# Altium footprint library NEW.PcbLib: 69 footprints (part 2 of 5)
Each footprint in its own frame and in the unit in brackets; x right, y up, seen from the top. Pads: shape width x height; smd on the part's side, far side on the other; paste and mask are expansions set on the pad; w line width, h text height; cw(c..) or ccw(c..) is an arc to the next point about the centre after c.
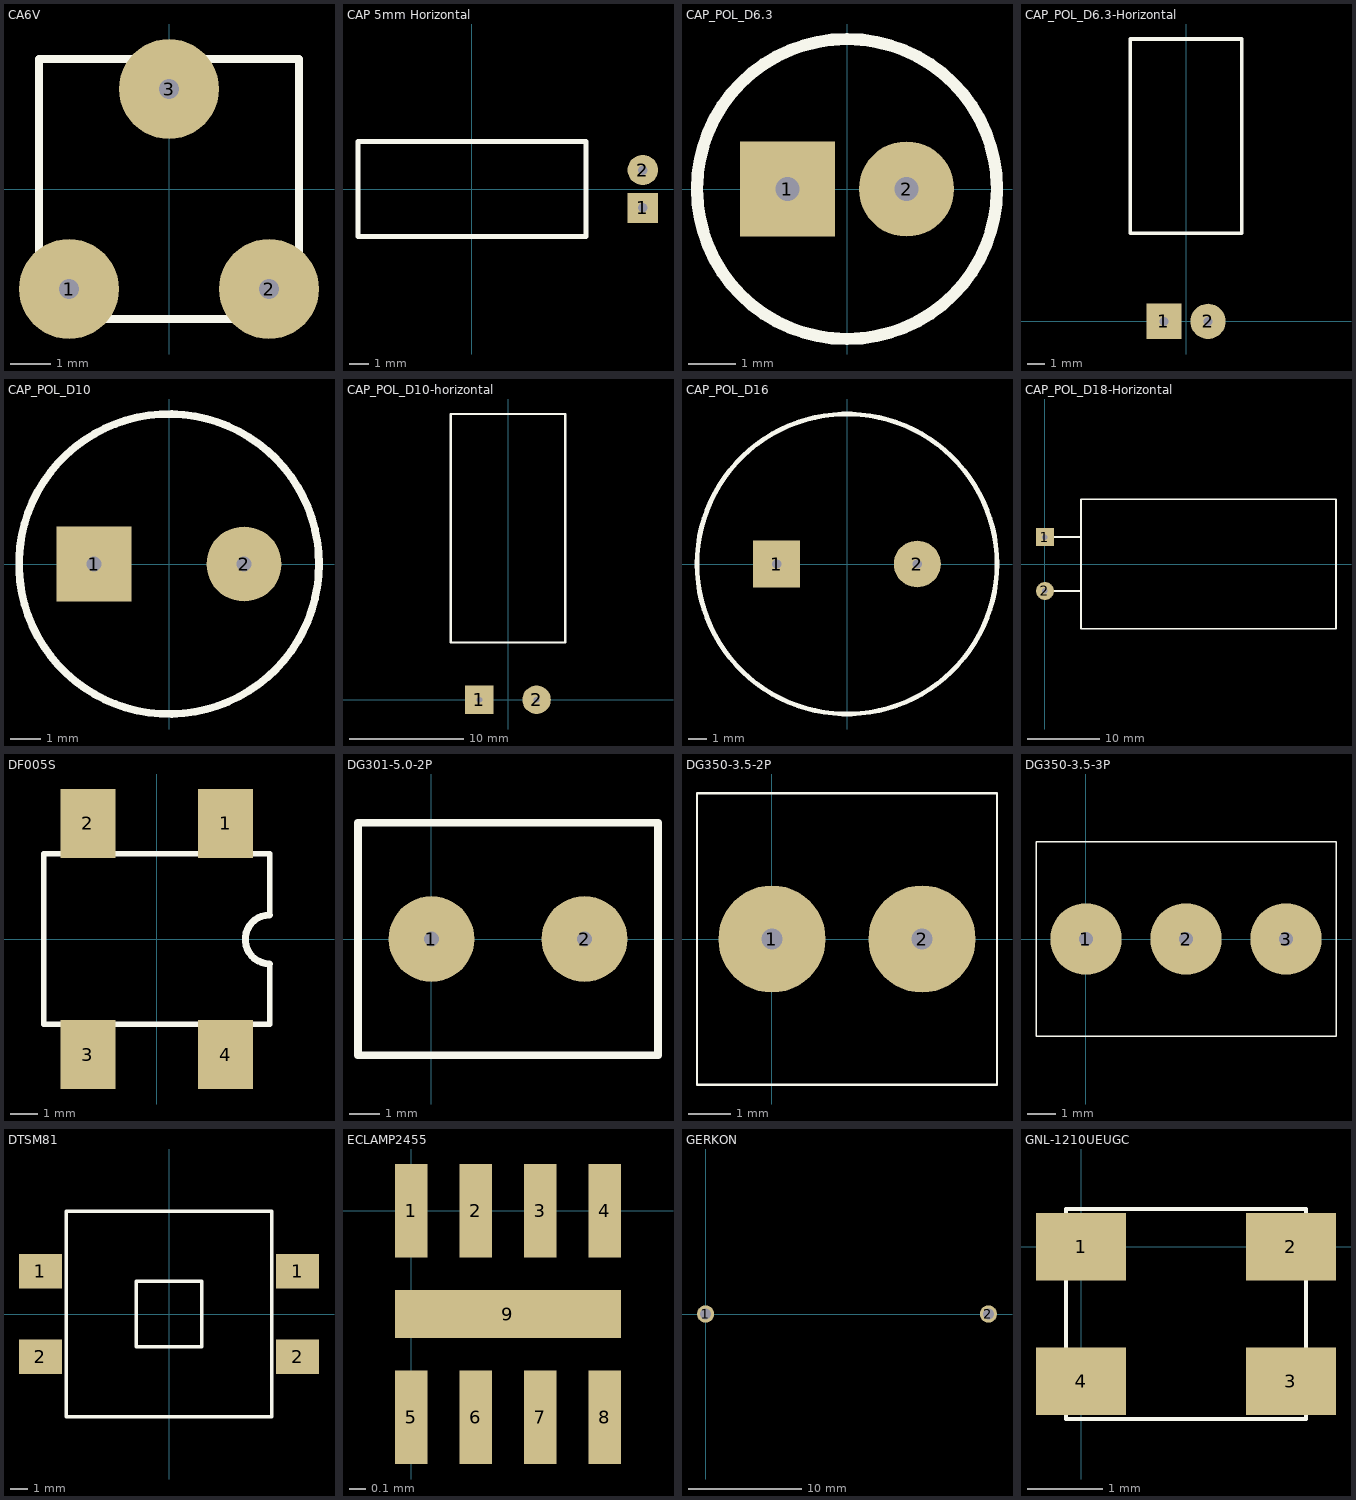
[diagram p1: the footprints below, top view; thin cyan lines are the x and y axes]

## CA6V [mm]
height 3.6
pads (3):
  round 2.5 hole 0.5 unplated: 1(-2.5,-2.5) 2(2.5,-2.5) 3(0,2.5)
Top Overlay:
  lines w0.2: -3.25,-3.25 3.25,-3.25 3.25,3.25 -3.25,3.25 -3.25,-3.25

## CAP 5mm Horizontal [mm]
height 5
pads (2):
  rect 1.6x1.6 hole 0.5: 1(9,-1)
  round 1.6 hole 0.5: 2(9,1)
Top Overlay:
  lines w0.254: -6,-2.5 -6,2.5 6,2.5 6,-2.5 -6,-2.5

## CAP_POL_D6.3 [mm]
height 11
pads (2):
  rect 2x2 hole 0.5 unplated: 1(-1.25,0)
  round 2 hole 0.5 unplated: 2(1.25,0)
Top Overlay:
  circle w0.254: c0,0 r3.15
3D body: height 11, standoff 0, extent -3.125,-3.144 3.15,3.144

## CAP_POL_D6.3-Horizontal [mm]
height 7
pads (2):
  rect 2x2 hole 0.5 unplated: 1(-1.25,0)
  round 2 hole 0.5 unplated: 2(1.25,0)
Top Overlay:
  lines w0.2: -3.15,5 -3.15,16 3.15,16 3.15,5 -3.15,5

## CAP_POL_D10 [mm]
height 20
pads (2):
  rect 2.5x2.5 hole 0.5 unplated: 1(-2.5,0)
  round 2.5 hole 0.5 unplated: 2(2.5,0)
Top Overlay:
  circle w0.254: c0,0 r5
3D body: height 20, standoff 0, extent -4.961,-4.99 5,4.99

## CAP_POL_D10-horizontal [mm]
pads (2):
  rect 2.5x2.5 hole 0.5 unplated: 1(-2.5,0)
  round 2.5 hole 0.5 unplated: 2(2.5,0)
Top Overlay:
  lines w0.2: -5,5 -5,25 5,25 5,5 -5,5

## CAP_POL_D16 [mm]
height 31.5
pads (2):
  rect 2.5x2.5 hole 0.5 unplated: 1(-3.75,0)
  round 2.5 hole 0.5 unplated: 2(3.75,0)
Top Overlay:
  circle w0.254: c0,0 r8
3D body: height 31.5, standoff 0, extent -7.937,-7.984 8,7.984

## CAP_POL_D18-Horizontal [mm]
height 18
pads (2):
  rect 2.5x2.5 hole 0.762: 1(0,3.75)
  round 2.5 hole 0.762: 2(0,-3.75)
Top Overlay:
  lines w0.254: 0,-3.75 4.95,-3.75 5,-3.8 ; 0,3.75 4.95,3.75 ; 5,-9 40.5,-9 40.5,9 5,9 5,-9

## DF005S [mm]
height 2.5
pads (4):
  rect 2x2.5 smd: 1(2.5,4.2) 2(-2.5,4.2) 3(-2.5,-4.2) 4(2.5,-4.2)
Top Overlay:
  lines w0.2: 4.1,-0.9 4.1,-3.1 -4.1,-3.1 -4.1,3.1 4.1,3.1 4.1,0.872
  lines w0.254: 4.1,-0.9 cw(c4.1,-0.014) 4.1,0.872

## DG301-5.0-2P [mm]
pads (2):
  round 2.8 hole 0.5: 1(0,0) 2(5,0)
Top Overlay:
  lines w0.254: -2.4,-3.8 -2.4,3.8 7.4,3.8 7.4,-3.8 -2.4,-3.8

## DG350-3.5-2P [mm]
pads (2):
  round 2.5 hole 0.5: 1(0,0) 2(3.5,0)
Top Overlay:
  lines w0.05: -1.75,-3.4 5.25,-3.4 5.25,3.4 -1.75,3.4 -1.75,-3.4

## DG350-3.5-3P [mm]
pads (3):
  round 2.5 hole 0.5: 1(0,0) 2(3.5,0) 3(7,0)
Top Overlay:
  lines w0.05: -1.75,-3.4 8.75,-3.4 8.75,3.4 -1.75,3.4 -1.75,-3.4

## DTSM81 [mm]
height 7.3
pads (4):
  rect 2.5x2 smd: 1(-7.5,2.5) 1(7.5,2.5) 2(-7.5,-2.5) 2(7.5,-2.5)
Top Overlay:
  lines w0.2: -6,-6 6,-6 6,6 -6,6 -6,-6 ; -1.9,-1.9 1.9,-1.9 1.9,1.9 -1.9,1.9 -1.9,-1.9

## ECLAMP2455 [mm]
pads (9):
  rect 0.2x0.58 smd: 1(0,0) 2(0.4,0) 3(0.8,0) 4(1.2,0) 5(0,-1.28) 6(0.4,-1.28) 7(0.8,-1.28) 8(1.2,-1.28)
  rect 1.4x0.3 smd: 9(0.6,-0.64)

## GERKON [mil]
pads (2):
  round 60 hole 38: 1(0,0) 2(984.25,0)
Bottom Overlay:
  lines w10: 196.85,-78.74 826.77,-78.74 826.77,78.74 196.85,78.74 196.85,-78.74

## GNL-1210UEUGC [mm]
pads (4):
  rect 1.2x0.9 smd: 1(0,0) 2(2.8,0) 3(2.8,-1.8) 4(0,-1.8)
Top Overlay:
  lines w0.05: -0.2,-2.3 3,-2.3 3,0.5 -0.2,0.5 -0.2,-2.3